# Altium footprint library 20021111-00008T4LF.PcbLib: 1 footprints
Each footprint in its own frame and in the unit in brackets; x right, y up, seen from the top. Pads: shape width x height; smd on the part's side, far side on the other; paste and mask are expansions set on the pad; w line width, h text height; cw(c..) or ccw(c..) is an arc to the next point about the centre after c.
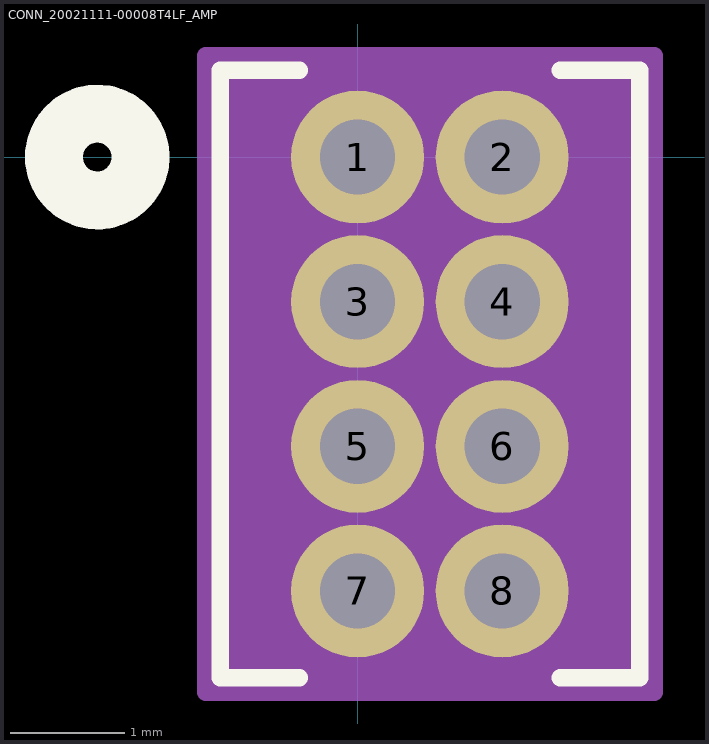
[diagram p0: the footprint, top view; thin cyan lines are the x and y axes]

## CONN_20021111-00008T4LF_AMP [mil]
pads (8):
  round 46 hole 26 paste-99999 mask+0: 1(0,0) 2(50,0) 3(0,-50) 4(50,-50) 5(0,-100) 6(50,-100) 7(0,-150) 8(50,-150)
Top Overlay:
  circle w20: c-90,0 r15
  lines w6: -20.08,-180 -47.52,-180 -47.52,30 -20.08,30 ; 70.08,-180 97.52,-180 97.52,30 70.08,30
  text ".Designator" at -112.5,-100 h50
Bottom Overlay:
  circle w20: c-90,0 r15
Mechanical 13:
  circle w20: c0,0 r15
  lines w1: -42.52,-175 92.52,-175 92.52,25 -42.52,25 -42.52,-175
  text ".Designator" at -112.5,-100 h50
Mechanical 15:
  region: 102.52,35 -52.52,35 -52.52,-185 102.52,-185
  lines w6: -52.52,-185 -52.52,35 102.52,35 102.52,-185 -52.52,-185